# Altium footprint library common.PcbLib: 93 footprints (part 6 of 6)
Each footprint in its own frame and in the unit in brackets; x right, y up, seen from the top. Pads: shape width x height; smd on the part's side, far side on the other; paste and mask are expansions set on the pad; w line width, h text height; cw(c..) or ccw(c..) is an arc to the next point about the centre after c.
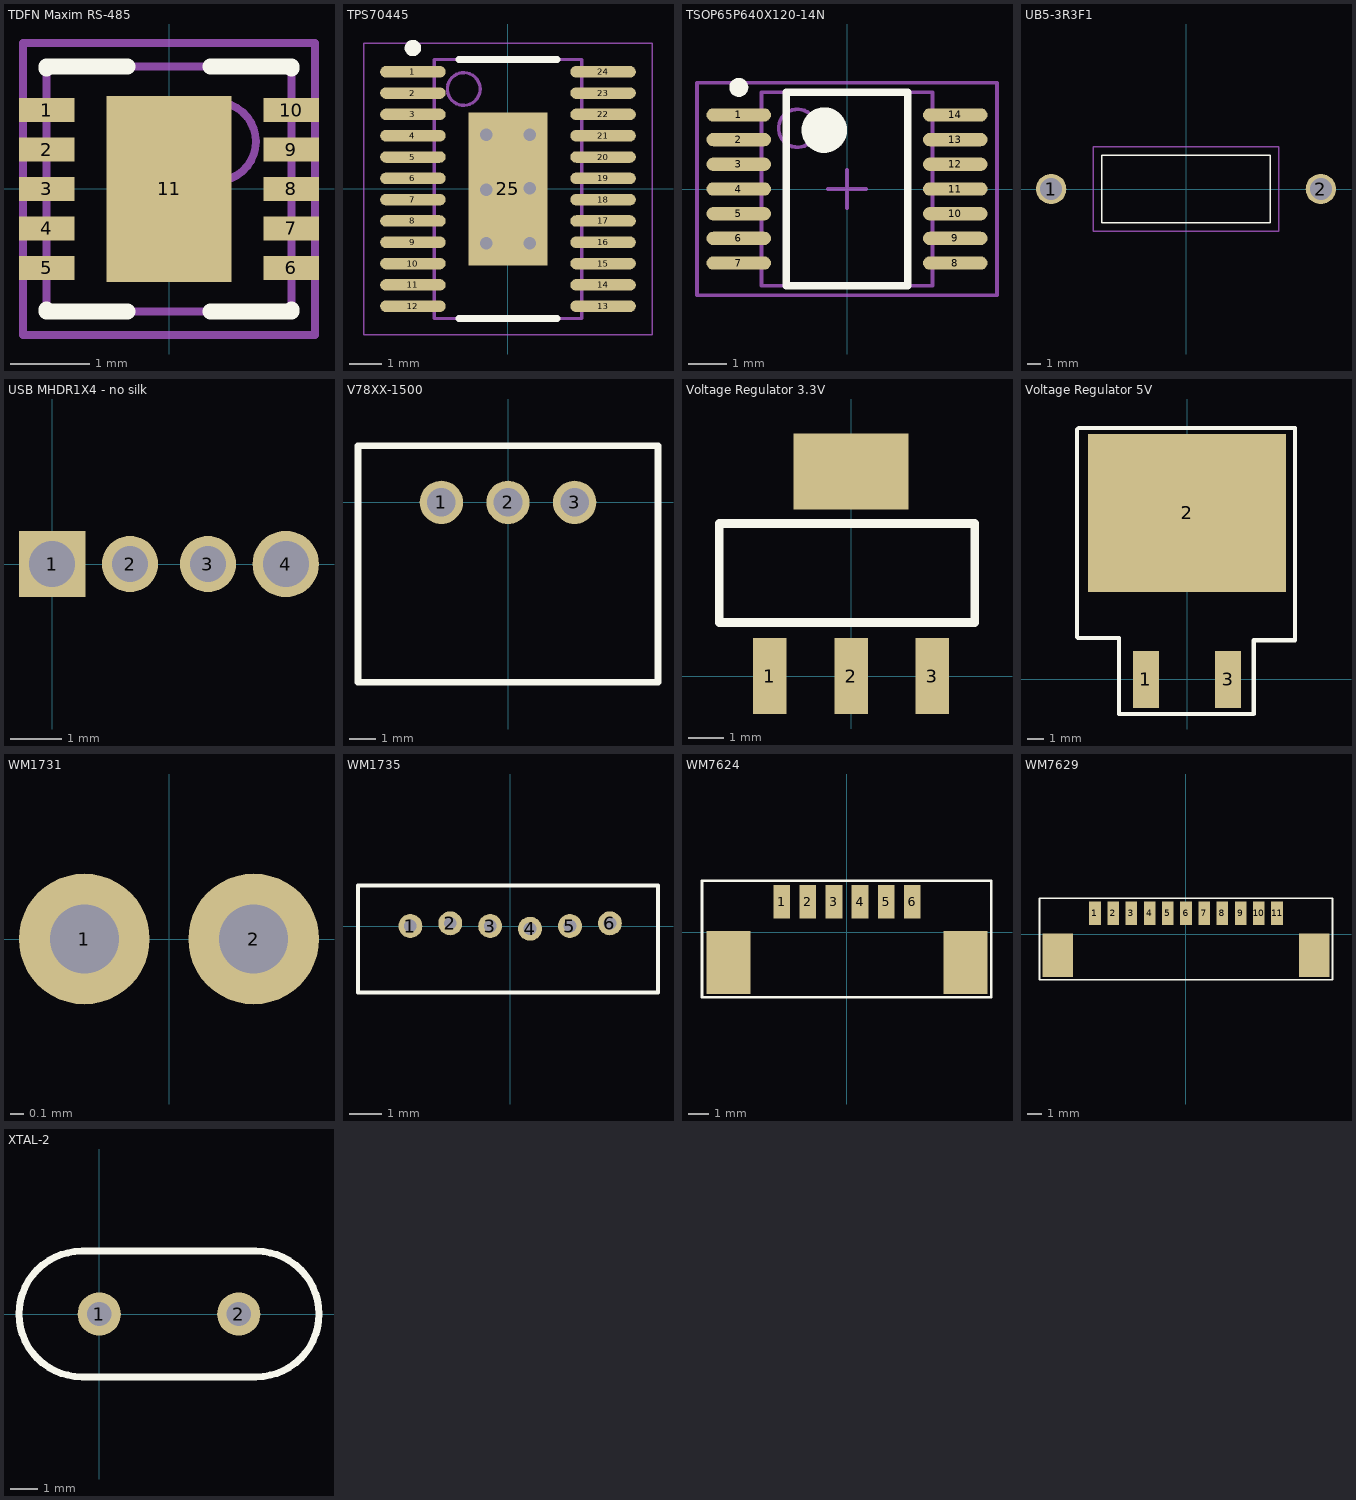
[diagram p5: the footprints below, top view; thin cyan lines are the x and y axes]

## TDFN Maxim RS-485 [mm] "QFN, 10-Leads, Body 3.1x3.1mm (max), Pitch 0.50mm, IPC High Density"
height 0.8
pads (11):
  rect 0.7x0.3 smd: 1(-1.55,1) 2(-1.55,0.5) 3(-1.55,0) 4(-1.55,-0.5) 5(-1.55,-1) 6(1.55,-1) 7(1.55,-0.5) 8(1.55,0) 9(1.55,0.5) 10(1.55,1)
  rect 1.58x2.35 smd paste-99: 11(0,0)
Top Overlay:
  lines w0.2: -1.55,-1.525 -1.55,-1.55 -0.525,-1.55 ; -1.55,1.525 -1.55,1.55 -0.525,1.55 ; 0.525,-1.55 1.55,-1.55 1.55,-1.525 ; 0.525,1.55 1.55,1.55 1.55,1.525
Top Paste:
  region: 0.152,1.143 0.152,0.543 0.752,0.543 0.752,1.143
  region: 0.152,0.305 0.152,-0.295 0.752,-0.295 0.752,0.305
  region: 0.152,-0.533 0.152,-1.133 0.752,-1.133 0.752,-0.533
  region: -0.737,-0.533 -0.737,-1.133 -0.137,-1.133 -0.137,-0.533
  region: -0.737,0.305 -0.737,-0.295 -0.137,-0.295 -0.137,0.305
  region: -0.737,1.143 -0.737,0.543 -0.137,0.543 -0.137,1.143
Mechanical 13:
  circle w0.1: c0.6,0.6 r0.5
  lines w0.1: -1.55,-1.55 1.55,-1.55 1.55,1.55 -1.55,1.55 -1.55,-1.55
Mechanical 15:
  lines w0.1: -0.5,0 0.5,0 ; 0,-0.5 0,0.5 ; -1.85,-1.85 1.85,-1.85 1.85,1.85 -1.85,1.85 -1.85,-1.85
3D body: height 0.8, standoff 0, extent -1.55,-1.55 1.55,1.55

## TPS70445 [mm] "TSOP, 24-Leads, Body 7.80x4.40mm, Pitch 0.65mm, Thermal Pad"
height 1.2
pads (25):
  oval 2x0.35 smd: 1(-2.9,3.575) 2(-2.9,2.925) 3(-2.9,2.275) 4(-2.9,1.625) 5(-2.9,0.975) 6(-2.9,0.325) 7(-2.9,-0.325) 8(-2.9,-0.975) 9(-2.9,-1.625) 10(-2.9,-2.275) 11(-2.9,-2.925) 12(-2.9,-3.575) 13(2.9,-3.575) 14(2.9,-2.925) 15(2.9,-2.275) 16(2.9,-1.625) 17(2.9,-0.975) 18(2.9,-0.325) 19(2.9,0.325) 20(2.9,0.975) 21(2.9,1.625) 22(2.9,2.275) 23(2.9,2.925) 24(2.9,3.575)
  rect 2.4x4.68 smd: 25(0,0)
via 0.66,0.025 diameter 0.889 hole 0.381
via -0.66,-0.025 diameter 0.889 hole 0.381
via -0.66,1.65 diameter 0.889 hole 0.381
via 0.66,1.65 diameter 0.889 hole 0.381
via -0.66,-1.65 diameter 0.889 hole 0.381
via 0.66,-1.65 diameter 0.889 hole 0.381
Top Overlay:
  circle w0.25: c-2.9,4.3 r0.125
  lines w0.2: -1.5,-3.95 1.5,-3.95 ; -1.5,3.95 1.5,3.95
Mechanical 13:
  circle w0.1: c-1.35,3.05 r0.5
  lines w0.1: -2.25,-3.95 -2.25,3.95 2.25,3.95 2.25,-3.95 -2.25,-3.95
Mechanical 15:
  lines w0.05: -4.4,-4.45 -4.4,4.45 4.4,4.45 4.4,-4.45 -4.4,-4.45
  lines w0.1: -0.5,0 0.5,0 ; 0,-0.5 0,0.5
3D body: height 1.2, standoff 0.1, extent -2.25,-3.95 2.25,3.95

## TSOP65P640X120-14N [mm] "TSOP, 14-Leads, Body 5.1x4.5mm (max), Pitch 0.65mm, IPC Medium Density"
height 1.2
pads (14):
  oval 1.7x0.35 smd: 1(-2.85,1.95) 2(-2.85,1.3) 3(-2.85,0.65) 4(-2.85,0) 5(-2.85,-0.65) 6(-2.85,-1.3) 7(-2.85,-1.95) 8(2.85,-1.95) 9(2.85,-1.3) 10(2.85,-0.65) 11(2.85,0) 12(2.85,0.65) 13(2.85,1.3) 14(2.85,1.95)
Top Overlay:
  circle w0.25: c-2.85,2.675 r0.125
  circle w0.6: c-0.6,1.55 r0.3
  lines w0.2: -1.6,-2.55 -1.6,2.55 1.6,2.55 1.6,-2.55 -1.6,-2.55
Mechanical 13:
  circle w0.1: c-1.3,1.6 r0.5
  lines w0.1: -2.25,-2.55 -2.25,2.55 2.25,2.55 2.25,-2.55 -2.25,-2.55
Mechanical 15:
  lines w0.1: -0.5,0 0.5,0 ; 0,-0.5 0,0.5 ; -3.95,-2.8 -3.95,2.8 3.95,2.8 3.95,-2.8 -3.95,-2.8
3D body: height 1.2, standoff 0.05, extent -2.25,-2.55 2.25,2.55

## UB5-3R3F1 [mil] "UB5C-3R3F1 Resistor"
height 218
pads (2):
  round 90 hole 65: 1(-400,0) 2(400,0)
Top Overlay:
  lines w5: -250,-100 250,-100 250,100 -250,100 -250,-100
Mechanical 15:
  lines w5: -275,-125 275,-125 275,100 275,125 -275,125 -275,-125
3D body: height 213.72, standoff -3.42, extent -250,-107.57 250,110

## USB MHDR1X4 - no silk [mm] "Connector; Header; 4 Position"
pads (4):
  rect 1.3x1.3 hole 0.9: 1(0,0)
  round 1.1 hole 0.7: 2(1.524,0) 3(3.048,0)
  round 1.3 hole 0.9: 4(4.572,0)

## V78XX-1500 [mil] "CUI DC-DC Converter 1500ma"
height 689
pads (3):
  round 65 hole 43: 1(-100,0) 2(0,0) 3(100,0)
Top Overlay:
  lines w10: -225,-270 225,-270 225,85 -225,85 -225,-270
3D body: height 689.58, standoff -160.82, extent -226.37,-269.68 226.38,84.65

## Voltage Regulator 3.3V [mm] "ZLDO1117G33DICT-ND"
pads (4):
  rect 0.95x2.15 all layers, no hole: 1(-2.3,0) 2(0,0) 3(2.3,0)
  rect 3.25x2.15 all layers, no hole: ""(0,5.8)
Top Overlay:
  lines w0.254: -3.734,1.524 -3.734,4.318 3.505,4.318 3.505,1.524 -3.734,1.524

## Voltage Regulator 5V [mm] "497-7255-1-ND"
pads (3):
  rect 1.6x3.5 all layers, no hole: 1(-2.54,0) 3(2.54,0)
  rect 12.2x9.75 all layers, no hole: 2(0,10.275)
Top Overlay:
  lines w0.254: -6.782,2.616 -6.782,15.418 -6.68,15.519 6.655,15.519 6.655,2.413 4.115,2.413 4.115,-2.134 -4.191,-2.134 -4.191,2.565 -6.731,2.565 -6.782,2.616

## WM1731 [mil] "2 Pos Picoblad Vert Thru Male"
pads (2):
  round 38 hole 20: 1(-24.61,0) 2(24.61,0)
3D body: height 165.35, standoff -86.61, extent -83.26,-81.99 84.06,44

## WM1735 [mm] "Molex Picoblade 6-Contact Vert Thru"
pads (6):
  round 0.75 hole 0.4: 1(-3.125,0) 2(-1.875,0.085) 3(-0.625,0) 4(0.625,-0.085) 5(1.875,0) 6(3.125,0.085)
Top Overlay:
  lines w0.127: -4.765,-2.083 4.633,-2.083 4.633,1.27 -4.765,1.27 -4.765,-2.083
3D body: height 4.2, standoff -2.2, extent -4.691,-2.006 4.559,1.194

## WM7624 [mm] "6-Pin Molex Picoblade Connector"
height 3.4
pads (8):
  rect 0.8x1.6 smd: 1(-3.125,1.45) 2(-1.875,1.45) 3(-0.625,1.45) 4(0.625,1.45) 5(1.875,1.45) 6(3.125,1.45)
  rect 2.1x3 smd: ""(-5.675,-1.45) ""(5.675,-1.45)
Top Overlay:
  lines w0.127: -6.935,-3.122 -6.935,2.466 6.908,2.466 6.908,-3.122 -6.935,-3.122
3D body: height 3.4, standoff 0, extent -6.326,-3.342 6.324,1.858

## WM7629 [mm] "11 Pin Molex Picoblade Connector"
height 3.4
pads (13):
  rect 0.8x1.6 smd: 1(-6.25,1.45) 2(-5,1.45) 3(-3.75,1.45) 4(-2.5,1.45) 5(-1.25,1.45) 6(0,1.45) 7(1.25,1.45) 8(2.5,1.45) 9(3.75,1.45) 10(5,1.45) 11(6.25,1.45)
  rect 2.1x3 smd: ""(-8.8,-1.45) ""(8.8,-1.45)
Top Overlay:
  lines w0.127: -10.06,-3.122 10.057,-3.122 10.057,2.466 -10.06,2.466 -10.06,-3.122
3D body: height 3.4, standoff 0, extent -9.45,-3.131 9.45,2.069

## XTAL-2 [mil]
pads (2):
  round 62 hole 35: 1(0,0) 2(200,0)
Top Overlay:
  lines w10: -25,-90 cw(c-25,0) -25,90 225,90 cw(c225,0) 225,-90 -25,-90